# Altium schematic symbol library scale_AD7190.SchLib: 4 symbols
Pins are listed as number, name and electrical type; pins without a type are passive.

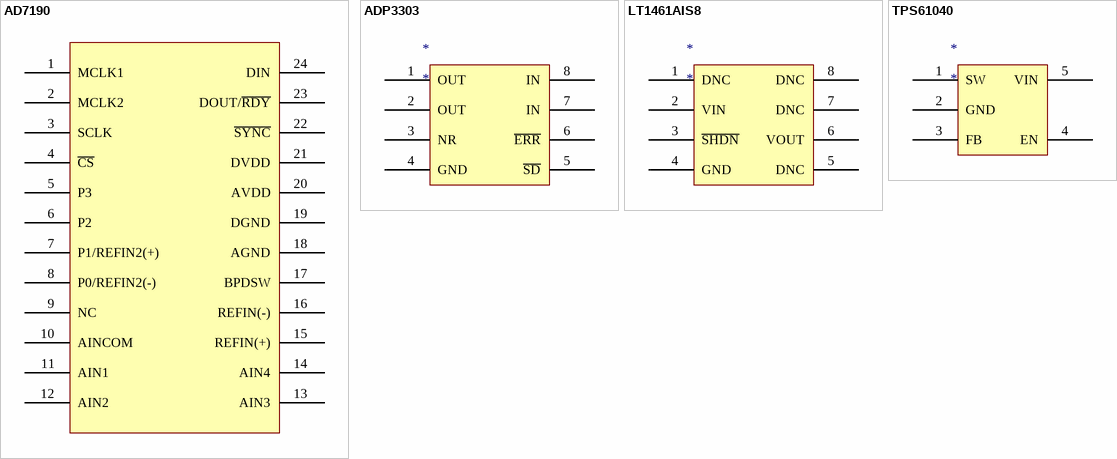
[diagram p0: symbols AD7190 to TPS61040]

## AD7190
designator 01, comment 1  (value not drawn)
footprint TSOP-24N_AD7190 (TSOP, 24-Leads, Body 7.80x4.40mm, Pitch 0.65mm, IPC Medium Density)
pins: 1 MCLK1, 2 MCLK2, 3 SCLK, 4 ~{CS}, 5 P3, 6 P2, 7 P1/REFIN2(+), 8 P0/REFIN2(-), 9 NC, 10 AINCOM, 11 AIN1, 12 AIN2, 13 AIN3, 14 AIN4, 15 REFIN(+), 16 REFIN(-), 17 BPDSW, 18 AGND, 19 DGND, 20 AVDD, 21 DVDD, 22 ~{SYNC}, 23 DOUT/~{RDY}, 24 DIN

## ADP3303
designator *
pins: 1 OUT, 2 OUT, 3 NR, 4 GND, 5 ~{SD}, 6 ~{ERR}, 7 IN, 8 IN

## LT1461AIS8
designator *
pins: 1 DNC, 2 VIN, 3 ~{SHDN}, 4 GND, 5 DNC, 6 VOUT, 7 DNC, 8 DNC

## TPS61040
designator *
pins: 1 SW, 2 GND, 3 FB, 4 EN, 5 VIN